# Altium footprint library SparkFun-IC-Conversion.PCBLIB: 12 footprints
Each footprint in its own frame and in the unit in brackets; x right, y up, seen from the top. Pads: shape width x height; smd on the part's side, far side on the other; paste and mask are expansions set on the pad; w line width, h text height; cw(c..) or ccw(c..) is an arc to the next point about the centre after c.
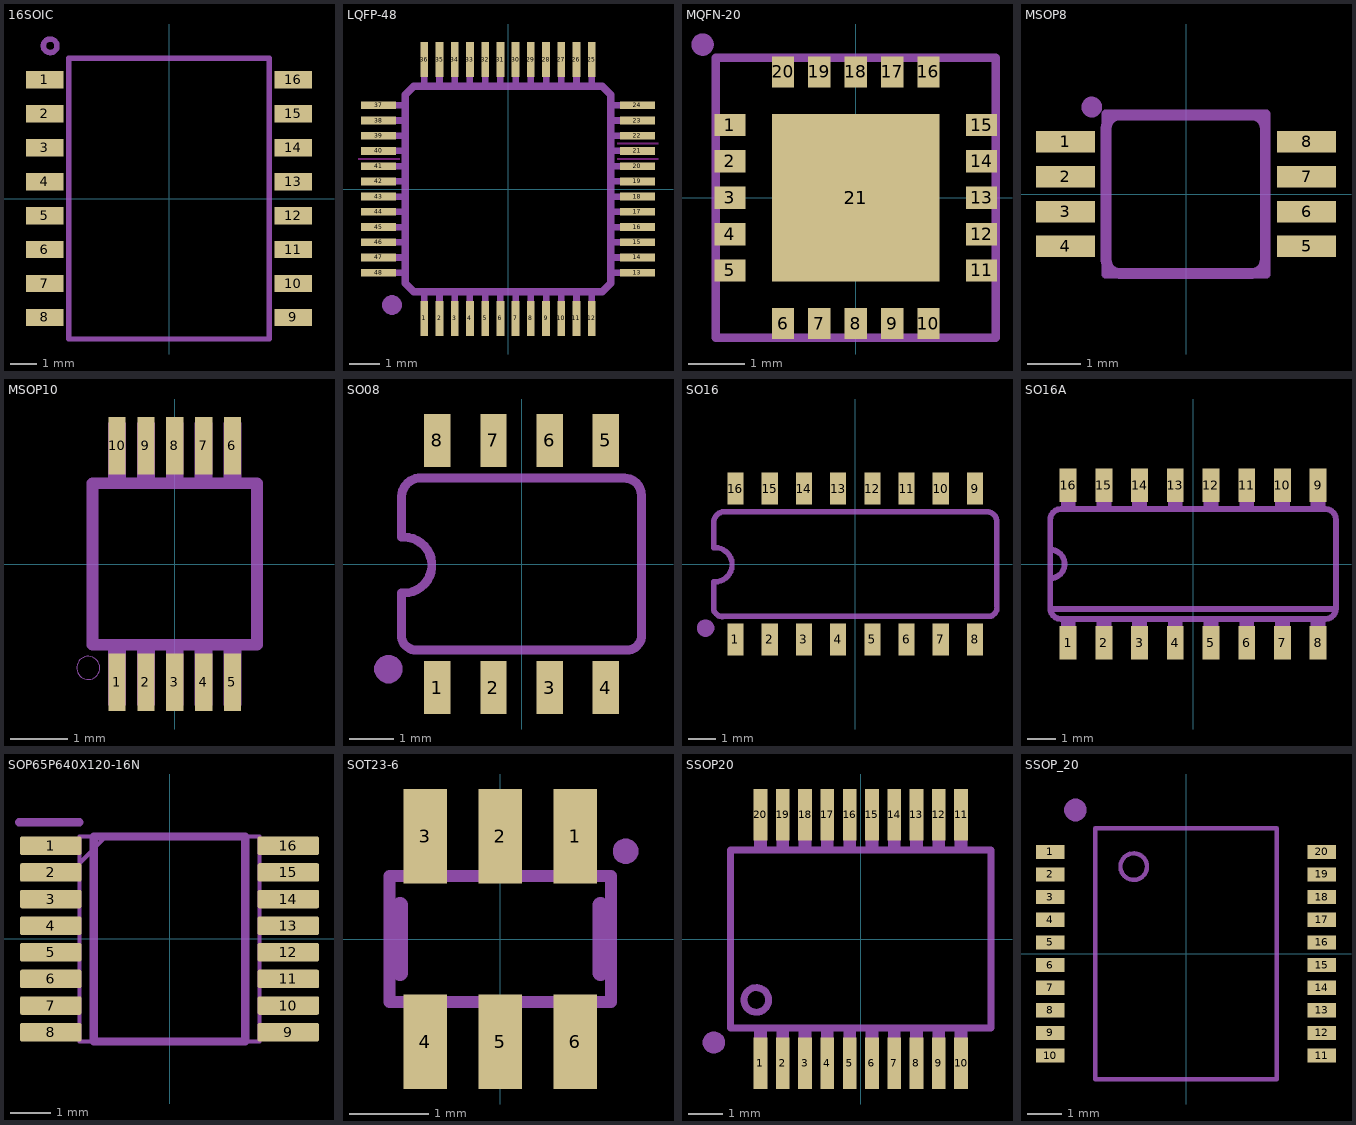
[diagram p0: the footprints below, top view; thin cyan lines are the x and y axes]

## 16SOIC [mil]
pads (16):
  rect 55x25.5 smd: 1(-183.07,175) 2(-183.07,125) 3(-183.07,75) 4(-183.07,25) 5(-183.07,-25) 6(-183.07,-75) 7(-183.07,-125) 8(-183.07,-175) 9(183.07,-175) 10(183.07,-125) 11(183.07,-75) 12(183.07,-25) 13(183.07,25) 14(183.07,75) 15(183.07,125) 16(183.07,175)
tDocu:
  lines w8: -147.64,-206.69 -147.64,206.69 147.64,206.69 147.64,-206.69 -147.64,-206.69
tPlace:
  circle w8: c-175,225 r10
  lines w8: -147.64,-206.69 -147.64,206.69 147.64,206.69 147.64,-206.69 -147.64,-206.69

## LQFP-48 [mil]
pads (48):
  rect 10x45 smd: 1(-108.27,-167.32) 2(-88.58,-167.32) 3(-68.9,-167.32) 4(-49.21,-167.32) 5(-29.53,-167.32) 6(-9.84,-167.32) 7(9.84,-167.32) 8(29.53,-167.32) 9(49.21,-167.32) 10(68.9,-167.32) 11(88.58,-167.32) 12(108.27,-167.32) 25(108.27,167.32) 26(88.58,167.32) 27(68.9,167.32) 28(49.21,167.32) 29(29.53,167.32) 30(9.84,167.32) 31(-9.84,167.32) 32(-29.53,167.32) 33(-49.21,167.32) 34(-68.9,167.32) 35(-88.58,167.32) 36(-108.27,167.32)
  rect 45x10 smd: 13(167.32,-108.27) 14(167.32,-88.58) 15(167.32,-68.9) 16(167.32,-49.21) 17(167.32,-29.53) 18(167.32,-9.84) 19(167.32,9.84) 20(167.32,29.53) 21(167.32,49.21) 22(167.32,68.9) 23(167.32,88.58) 24(167.32,108.27) 37(-167.32,108.27) 38(-167.32,88.58) 39(-167.32,68.9) 40(-167.32,49.21) 41(-167.32,29.53) 42(-167.32,9.84) 43(-167.32,-9.84) 44(-167.32,-29.53) 45(-167.32,-49.21) 46(-167.32,-68.9) 47(-167.32,-88.58) 48(-167.32,-108.27)
Top keep-out:
  region: 141,58 141,60 194,60 194,58
  region: 141,38 141,40 194,40 194,38
  region: -194,38 -194,40 -140,40 -140,38
tDocu:
  drawing of 48 lines, arcs and shapes, not listed
tPlace:
  region: -137.5,-150 -137.5,-147.51 -139.4,-142.92 -142.92,-139.4 -147.51,-137.5 -150,-137.5 -152.49,-137.5 -157.08,-139.4 -160.6,-142.92 -162.5,-147.51 -162.5,-150 -162.5,-152.49 -160.6,-157.08 -157.08,-160.6 -152.49,-162.5 -150,-162.5 -147.51,-162.5 -142.92,-160.6 -139.4,-157.08 -137.5,-152.49 -137.5,-150
  lines w10: -132.87,-122.05 -122.05,-132.87 122.05,-132.87 132.87,-122.05 132.87,122.05 122.05,132.87 -122.05,132.87 -132.87,122.05 -132.87,-122.05

## MQFN-20 [mm]
pads (21):
  rect 0.55x0.4 smd: 1(-2.25,1.3) 2(-2.25,0.65) 3(-2.25,0) 4(-2.25,-0.65) 5(-2.25,-1.3) 11(2.25,-1.3) 12(2.25,-0.65) 13(2.25,0) 14(2.25,0.65) 15(2.25,1.3)
  rect 0.4x0.55 smd: 6(-1.3,-2.25) 7(-0.65,-2.25) 8(0,-2.25) 9(0.65,-2.25) 10(1.3,-2.25) 16(1.3,2.25) 17(0.65,2.25) 18(0,2.25) 19(-0.65,2.25) 20(-1.3,2.25)
  rect 3x3 smd paste+0: 21(0,0)
Top Paste:
  region: -0.5,-0.5 -0.5,0.5 0.5,0.5 0.5,-0.5
tDocu:
  lines w0.152: -2.5,-2.5 2.5,-2.5 2.5,2.5 -2.5,2.5 -2.5,-2.5
tPlace:
  circle w0.2: c-2.738,2.738 r0.1

## MSOP8 [mil]
pads (8):
  rect 43.31x15.75 smd: 1(-88.58,38.39) 2(-88.58,12.8) 3(-88.58,-12.8) 4(-88.58,-38.39) 5(88.58,-38.39) 6(88.58,-12.8) 7(88.58,12.8) 8(88.58,38.39)
tDocu:
  region: -96.46,32.19 -96.46,44.59 -74.8,44.59 -74.8,32.19
  region: -96.46,6.59 -96.46,19 -74.8,19 -74.8,6.59
  region: -96.46,-19 -96.46,-6.59 -74.8,-6.59 -74.8,-19
  region: -96.46,-44.59 -96.46,-32.19 -74.8,-32.19 -74.8,-44.59
  region: 74.8,-44.59 74.8,-32.19 96.46,-32.19 96.46,-44.59
  region: 74.8,-19 74.8,-6.59 96.46,-6.59 96.46,-19
  region: 74.8,6.59 74.8,19 96.46,19 96.46,6.59
  region: 74.8,32.19 74.8,44.59 96.46,44.59 96.46,32.19
  lines w6: -59.06,-59.06 59.06,-59.06 59.06,59.06 -59.06,59.06 -59.06,-59.06
tPlace:
  circle w8: c-69.19,64 r3.61
  lines w8: -58.66,-48.82 -58.66,48.03 ; -58.66,-48.43 ccw(c-48.82,-48.43) -48.82,-58.27 48.43,-58.27 ccw(c48.43,-48.43) 58.27,-48.43 ; -58.66,48.43 cw(c-48.82,48.43) -48.82,58.27 ; -48.43,58.27 48.43,58.27 cw(c48.43,48.43) 58.27,48.43 ; 58.27,-48.82 58.27,48.03

## MSOP10 [mm]
pads (10):
  rect 0.3x1 smd paste+0 mask+0: 1(-1,-2.05) 2(-0.5,-2.05) 3(0,-2.05) 4(0.5,-2.05) 5(1,-2.05) 6(1,2.05) 7(0.5,2.05) 8(0,2.05) 9(-0.5,2.05) 10(-1,2.05)
Top Paste:
  region: -1.125,-2.5 -1.125,-1.625 -0.875,-1.625 -0.875,-2.5
  region: -0.625,-2.5 -0.625,-1.625 -0.375,-1.625 -0.375,-2.5
  region: -0.125,-2.5 -0.125,-1.625 0.125,-1.625 0.125,-2.5
  region: 0.375,-2.5 0.375,-1.625 0.625,-1.625 0.625,-2.5
  region: 0.875,-2.5 0.875,-1.625 1.125,-1.625 1.125,-2.5
  region: 1.125,2.5 1.125,1.625 0.875,1.625 0.875,2.5
  region: 0.625,2.5 0.625,1.625 0.375,1.625 0.375,2.5
  region: 0.125,2.5 0.125,1.625 -0.125,1.625 -0.125,2.5
  region: -0.375,2.5 -0.375,1.625 -0.625,1.625 -0.625,2.5
  region: -0.875,2.5 -0.875,1.625 -1.125,1.625 -1.125,2.5
Top Solder:
  region: -1.2,-2.6 -1.2,-1.5 -0.8,-1.5 -0.8,-2.6
  region: -0.7,-2.6 -0.7,-1.5 -0.3,-1.5 -0.3,-2.6
  region: -0.2,-2.6 -0.2,-1.5 0.2,-1.5 0.2,-2.6
  region: 0.3,-2.6 0.3,-1.5 0.7,-1.5 0.7,-2.6
  region: 0.8,-2.6 0.8,-1.5 1.2,-1.5 1.2,-2.6
  region: 1.2,2.6 1.2,1.5 0.8,1.5 0.8,2.6
  region: 0.7,2.6 0.7,1.5 0.3,1.5 0.3,2.6
  region: 0.2,2.6 0.2,1.5 -0.2,1.5 -0.2,2.6
  region: -0.3,2.6 -0.3,1.5 -0.7,1.5 -0.7,2.6
  region: -0.8,2.6 -0.8,1.5 -1.2,1.5 -1.2,2.6
tDocu:
  region: -1.15,-2.45 -1.15,-1.475 -0.85,-1.475 -0.85,-2.45
  region: -0.65,-2.45 -0.65,-1.475 -0.35,-1.475 -0.35,-2.45
  region: -0.15,-2.45 -0.15,-1.475 0.15,-1.475 0.15,-2.45
  region: 0.35,-2.45 0.35,-1.475 0.65,-1.475 0.65,-2.45
  region: 0.85,-2.45 0.85,-1.475 1.15,-1.475 1.15,-2.45
  region: 1.15,2.45 1.15,1.475 0.85,1.475 0.85,2.45
  region: 0.65,2.45 0.65,1.475 0.35,1.475 0.35,2.45
  region: 0.15,2.45 0.15,1.475 -0.15,1.475 -0.15,2.45
  region: -0.35,2.45 -0.35,1.475 -0.65,1.475 -0.65,2.45
  region: -0.85,2.45 -0.85,1.475 -1.15,1.475 -1.15,2.45
  lines w0.203: -1.425,-1.4 1.425,-1.4 ; -1.425,1.4 1.425,1.4
tPlace:
  circle w0: c-1.5,-1.8 r0.2
  lines w0.203: -1.425,-1.4 -1.425,1.4 ; 1.425,-1.4 1.425,1.4

## SO08 [mil]
pads (8):
  rect 23.62x47.24 smd: 1(-75,-110.24) 2(-25,-110.24) 3(25,-110.24) 4(75,-110.24) 5(75,110.24) 6(25,110.24) 7(-25,110.24) 8(-75,110.24)
tDocu:
  region: -85,-130 -85,-89.5 -65,-89.5 -65,-130
  region: -35,-130 -35,-89.5 -15,-89.5 -15,-130
  region: 15,-130 15,-89.5 35,-89.5 35,-130
  region: 65,-130 65,-89.5 85,-89.5 85,-130
  region: -35,90 -35,130 -15,130 -15,90
  region: 15,90 15,130 35,130 35,90
  region: 65,90 65,130 85,130 85,90
  region: -85,90 -85,130 -65,130 -65,90
tPlace:
  region: -106.25,-93.75 -106.25,-91.26 -108.15,-86.67 -111.67,-83.15 -116.26,-81.25 -118.75,-81.25 -121.24,-81.25 -125.83,-83.15 -129.35,-86.67 -131.25,-91.26 -131.25,-93.75 -131.25,-96.24 -129.35,-100.83 -125.83,-104.35 -121.24,-106.25 -118.75,-106.25 -116.26,-106.25 -111.67,-104.35 -108.15,-100.83 -106.25,-96.24 -106.25,-93.75
  lines w8: -107,-26 -107,-65.56 ccw(c-93.97,-63.6) -92,-76.63 95.94,-76.63 ccw(c93.97,-63.6) 107,-61.63 107,61.63 ccw(c92,61.63) 92,76.63 -92,76.63 ccw(c-90.03,59.66) -107,57.69 ; -107,24 -107,57.19 ; -105,-26 ccw(c-105,-1) -105,24

## SO16 [mil]
pads (16):
  rect 23.62x47.24 smd: 1(-175,-110.24) 2(-125,-110.24) 3(-75,-110.24) 4(-25,-110.24) 5(25,-110.24) 6(75,-110.24) 7(125,-110.24) 8(175,-110.24) 9(175,110.24) 10(125,110.24) 11(75,110.24) 12(25,110.24) 13(-25,110.24) 14(-75,110.24) 15(-125,110.24) 16(-175,110.24)
tDocu:
  region: -185,-130 -185,-89.5 -165,-89.5 -165,-130
  region: -135,-130 -135,-89.5 -115,-89.5 -115,-130
  region: -85,-130 -85,-89.5 -65,-89.5 -65,-130
  region: -35,-130 -35,-89.5 -15,-89.5 -15,-130
  region: 15,-130 15,-89.5 35,-89.5 35,-130
  region: 65,-130 65,-89.5 85,-89.5 85,-130
  region: 115,-130 115,-89.5 135,-89.5 135,-130
  region: 165,-130 165,-89.5 185,-89.5 185,-130
  region: -135,90 -135,130 -115,130 -115,90
  region: -85,90 -85,130 -65,130 -65,90
  region: -35,90 -35,130 -15,130 -15,90
  region: 15,90 15,130 35,130 35,90
  region: 65,90 65,130 85,130 85,90
  region: 115,90 115,130 135,130 135,90
  region: 165,90 165,130 185,130 185,90
  region: -185,90 -185,130 -165,130 -165,90
tPlace:
  region: -206.25,-93.75 -206.25,-91.26 -208.15,-86.67 -211.67,-83.15 -216.26,-81.25 -218.75,-81.25 -221.24,-81.25 -225.83,-83.15 -229.35,-86.67 -231.25,-91.26 -231.25,-93.75 -231.25,-96.24 -229.35,-100.83 -225.83,-104.35 -221.24,-106.25 -218.75,-106.25 -216.26,-106.25 -211.67,-104.35 -208.15,-100.83 -206.25,-96.24 -206.25,-93.75
  lines w8: -207,-26 -207,-65.56 ccw(c-193.97,-63.6) -192,-76.63 195.94,-76.63 ccw(c193.97,-63.6) 207,-61.63 207,61.63 ccw(c192,61.63) 192,76.63 -192,76.63 ccw(c-190.03,59.66) -207,57.69 ; -207,24 -207,57.19 ; -205,-26 ccw(c-205,-1) -205,24

## SO16A [mil]
pads (16):
  rect 23.62x47.24 smd: 1(-175,-110.24) 2(-125,-110.24) 3(-75,-110.24) 4(-25,-110.24) 5(25,-110.24) 6(75,-110.24) 7(125,-110.24) 8(175,-110.24) 9(175,110.24) 10(125,110.24) 11(75,110.24) 12(25,110.24) 13(-25,110.24) 14(-75,110.24) 15(-125,110.24) 16(-175,110.24)
tDocu:
  region: -35,77 -35,122 -15,122 -15,77
  region: -185,-122 -185,-77 -165,-77 -165,-122
  region: -135,-122 -135,-77 -115,-77 -115,-122
  region: -85,-121 -85,-76 -65,-76 -65,-121
  region: -35,-122 -35,-77 -15,-77 -15,-122
  region: -85,77 -85,122 -65,122 -65,77
  region: -135,77 -135,122 -115,122 -115,77
  region: -185,77 -185,122 -165,122 -165,77
  region: 15,-122 15,-77 35,-77 35,-122
  region: 65,-122 65,-77 85,-77 85,-122
  region: 115,-122 115,-77 135,-77 135,-122
  region: 165,-122 165,-77 185,-77 185,-122
  region: 15,77 15,122 35,122 35,77
  region: 65,77 65,122 85,122 85,77
  region: 115,77 115,122 135,122 135,77
  region: 165,77 165,122 185,122 185,77
tPlace:
  lines w8: -200,-63 200,-63 ; -200,-20 -200,20 ; -200,-20 -200,-62 ccw(c-185,-62) -185,-77 185,-77 ccw(c185,-62) 200,-62 200,62 ccw(c185,62) 185,77 -185,77 ccw(c-185,62) -200,62 -200,20 ; -200,-20 ccw(c-200,0) -200,20

## SOP65P640X120-16N [mil]
pads (16):
  rrect20% 59.06x17.72 smd: 1(-114.17,89.57) 2(-114.17,63.98) 3(-114.17,38.39) 4(-114.17,12.8) 5(-114.17,-12.8) 6(-114.17,-38.39) 7(-114.17,-63.98) 8(-114.17,-89.57) 9(114.17,-89.57) 10(114.17,-63.98) 11(114.17,-38.39) 12(114.17,-12.8) 13(114.17,12.8) 14(114.17,38.39) 15(114.17,63.98) 16(114.17,89.57)
tDocu:
  lines w3.94: -86.61,72.83 -61.02,98.43 ; -86.61,-98.43 86.61,-98.43 86.61,98.43 -86.61,98.43 -86.61,-98.43
tPlace:
  lines w7.87: -144.69,112.2 -86.61,112.2 ; -72.83,-98.43 72.83,-98.43 72.83,98.43 -72.83,98.43 -72.83,-98.43

## SOT23-6 [mil]
pads (6):
  rect 21.65x47.24 smd: 1(37.4,51.19) 2(0,51.19) 3(-37.4,51.19) 4(-37.4,-51.19) 5(0,-51.19) 6(37.4,-51.19)
tDocu:
  region: -47.24,-59.06 -47.24,-33.46 -27.56,-33.46 -27.56,-59.06
  region: -9.84,-59.06 -9.84,-33.46 9.84,-33.46 9.84,-59.06
  region: 27.56,-59.06 27.56,-33.46 47.24,-33.46 47.24,-59.06
  region: 27.56,33.46 27.56,59.06 47.24,59.06 47.24,33.46
  region: -47.24,33.46 -47.24,59.06 -27.56,59.06 -27.56,33.46
  region: 9.84,59.06 9.84,33.46 -9.84,33.46 -9.84,59.06
  lines w6: -55.12,-31.5 55.12,-31.5 55.12,31.5 -55.12,31.5 -55.12,-31.5
tPlace:
  region: 56.25,43.75 56.25,42.51 57.2,40.21 58.96,38.45 61.26,37.5 62.5,37.5 63.74,37.5 66.04,38.45 67.8,40.21 68.75,42.51 68.75,43.75 68.75,44.99 67.8,47.29 66.04,49.05 63.74,50 62.5,50 61.26,50 58.96,49.05 57.2,47.29 56.25,44.99 56.25,43.75
  lines w8: -50,-16.91 -50,16.91 ; 50,-16.91 50,16.91

## SSOP20 [mil]
pads (20):
  rect 15.75x59.06 smd: 1(-115.16,-142.72) 2(-89.57,-142.72) 3(-63.98,-142.72) 4(-38.39,-142.72) 5(-12.8,-142.72) 6(12.8,-142.72) 7(38.39,-142.72) 8(63.98,-142.72) 9(89.57,-142.72) 10(115.16,-142.72) 11(115.16,142.72) 12(89.57,142.72) 13(63.98,142.72) 14(38.39,142.72) 15(12.8,142.72) 16(-12.8,142.72) 17(-38.39,142.72) 18(-63.98,142.72) 19(-89.57,142.72) 20(-115.16,142.72)
tDocu:
  region: -122.16,-155 -122.16,-104 -108.16,-104 -108.16,-155
  region: -96.57,-155 -96.57,-104 -82.57,-104 -82.57,-155
  region: -70.98,-155 -70.98,-104 -56.98,-104 -56.98,-155
  region: -45.39,-155 -45.39,-104 -31.39,-104 -31.39,-155
  region: -19.8,-155 -19.8,-104 -5.8,-104 -5.8,-155
  region: 5.79,-155 5.79,-104 19.79,-104 19.79,-155
  region: 31.38,-155 31.38,-104 45.38,-104 45.38,-155
  region: 56.98,-155 56.98,-104 70.98,-104 70.98,-155
  region: 82.57,-155 82.57,-104 96.57,-104 96.57,-155
  region: 108.16,-155 108.16,-104 122.16,-104 122.16,-155
  region: 108.15,104 108.15,155 122.15,155 122.15,104
  region: 82.56,104 82.56,155 96.56,155 96.56,104
  region: 56.97,104 56.97,155 70.97,155 70.97,104
  region: 31.39,104 31.39,155 45.39,155 45.39,104
  region: 5.8,104 5.8,155 19.8,155 19.8,104
  region: -19.79,104 -19.79,155 -5.79,155 -5.79,104
  region: -45.38,104 -45.38,155 -31.38,155 -31.38,104
  region: -70.97,104 -70.97,155 -56.97,155 -56.97,104
  region: -96.56,104 -96.56,155 -82.56,155 -82.56,104
  region: -122.15,104 -122.15,155 -108.15,155 -108.15,104
tPlace:
  circle w8: c-120,-70 r14.14
  region: -156.25,-118.75 -156.25,-116.26 -158.15,-111.67 -161.67,-108.15 -166.26,-106.25 -168.75,-106.25 -171.24,-106.25 -175.83,-108.15 -179.35,-111.67 -181.25,-116.26 -181.25,-118.75 -181.25,-121.24 -179.35,-125.83 -175.83,-129.35 -171.24,-131.25 -168.75,-131.25 -166.26,-131.25 -161.67,-129.35 -158.15,-125.83 -156.25,-121.24 -156.25,-118.75
  lines w5: -150.59,101.38 -149.61,101.38
  lines w8: -149.61,101.38 -149.61,-102.36 149.61,-102.36 149.61,102.36 -149.61,102.36

## SSOP_20 [mil]
pads (20):
  rect 32x16 smd: 1(-153.54,115.16) 2(-153.54,89.57) 3(-153.54,63.98) 4(-153.54,38.39) 5(-153.54,12.8) 6(-153.54,-12.8) 7(-153.54,-38.39) 8(-153.54,-63.98) 9(-153.54,-89.57) 10(-153.54,-115.16) 11(153.54,-115.16) 12(153.54,-89.57) 13(153.54,-63.98) 14(153.54,-38.39) 15(153.54,-12.8) 16(153.54,12.8) 17(153.54,38.39) 18(153.54,63.98) 19(153.54,89.57) 20(153.54,115.16)
tPlace:
  circle w5: c-59.06,98.43 r15
  region: -125,150 -122.51,150 -117.92,151.9 -114.4,155.42 -112.5,160.01 -112.5,162.5 -112.5,164.99 -114.4,169.58 -117.92,173.1 -122.51,175 -125,175 -127.49,175 -132.08,173.1 -135.6,169.58 -137.5,164.99 -137.5,162.5 -137.5,160.01 -135.6,155.42 -132.08,151.9 -127.49,150 -125,150
  lines w5: -102.36,-141.73 102.36,-141.73 102.36,141.73 -102.36,141.73 -102.36,-141.73